# Altium footprint library CN_Phoenix_FFKDS_V1-5.08.PcbLib: 1 footprints
Each footprint in its own frame and in the unit in brackets; x right, y up, seen from the top. Pads: shape width x height; smd on the part's side, far side on the other; paste and mask are expansions set on the pad; w line width, h text height; cw(c..) or ccw(c..) is an arc to the next point about the centre after c.
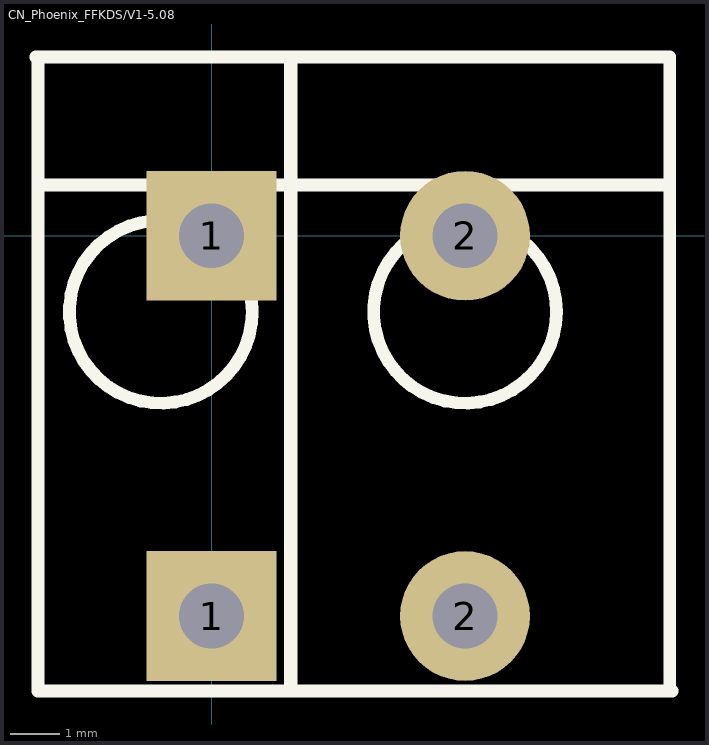
[diagram p0: the footprint, top view; thin cyan lines are the x and y axes]

## CN_Phoenix_FFKDS/V1-5.08 [mm]
pads (4):
  rect 2.6x2.6 hole 1.3: 1(0,-7.62) 1(0,0)
  round 2.6 hole 1.3: 2(5.08,-7.62) 2(5.08,0)
Top Overlay:
  circle w0.254: c5.08,-1.524 r1.832
  circle w0.254: c-1.016,-1.524 r1.832
  lines w0.254: -3.52,3.58 -3.47,3.53 -3.47,-9.12 ; -3.48,1.016 9.144,1.016 ; 1.6,-9.12 1.6,-9.12 ; 1.6,-9.12 -3.48,-9.12 -3.48,3.58 1.6,3.58 ; 1.6,-9.12 1.6,3.58 ; 1.6,3.58 1.6,3.58 ; 1.58,-9.12 1.58,3.58 9.18,3.58 9.18,-9.07 9.23,-9.12 1.58,-9.12
3D body: height 13.62, standoff -3.38, extent 1.58,-9.12 9.2,3.58
3D body: height 13.62, standoff -3.38, extent -3.48,-9.12 3.4,3.58